# EAGLE library part ADS1X15 (library heck)
12-Bit Analog-to-Digital Converter
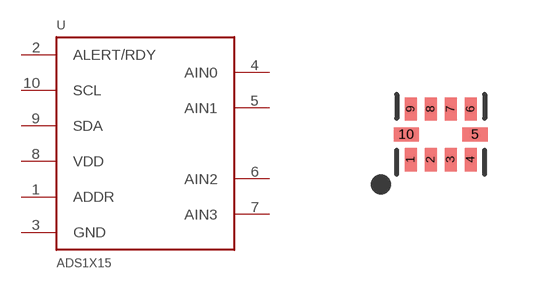
[diagram p38: symbol with the pads of 10-X2QFN; footprint 10-X2QFN]

Designator prefix U

## ADS1X15RUG  [10-X2QFN]
1  ADDR
2  ALERT/RDY
3  GND
4  AIN0
5  AIN1
6  AIN2
7  AIN3
8  VDD
9  SDA
10  SCL

## Footprint 10-X2QFN (pad centres in mm)
smd 0.3 x 0.58: 1 -0.75,-0.635; 2 -0.25,-0.635; 3 0.25,-0.635; 4 0.75,-0.635; 6 0.75,0.635; 7 0.25,0.635; 8 -0.25,0.635; 9 -0.75,0.635
smd 0.63 x 0.35: 5 0.86,0; 10 -0.86,0